# EAGLE library part TPS40057 (library robot)
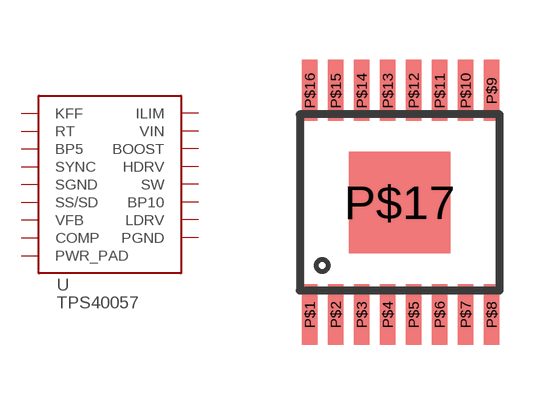
[diagram p9: symbol with the pads of PDSO16; footprint PDSO16]

Designator prefix -

## TPS40057PWP  [PDSO16]
P$1  KFF
P$2  RT
P$3  BP5
P$4  SYNC
P$5  SGND
P$6  SS/SD
P$7  VFB
P$8  COMP
P$9  PGND
P$10  LDRV
P$11  BP10
P$12  SW
P$13  HDRV
P$14  BOOST
P$15  VIN
P$16  ILIM
P$17  PWR_PAD

## Footprint PDSO16 (pad centres in mm)
smd 0.381 x 1.524: P$1 -2.25,-2.8; P$2 -1.6,-2.8; P$3 -0.95,-2.8; P$4 -0.3,-2.8; P$5 0.35,-2.8; P$6 1,-2.8; P$7 1.65,-2.8; P$8 2.3,-2.8; P$9 2.3,2.8; P$10 1.65,2.8; P$11 1,2.8; P$12 0.35,2.8; P$13 -0.3,2.8; P$14 -0.95,2.8; P$15 -1.6,2.8; P$16 -2.25,2.8
smd 2.54 x 2.54: P$17 0,0